# Altium footprint library SKALE_LIB.PcbLib: 52 footprints (part 2 of 4)
Each footprint in its own frame and in the unit in brackets; x right, y up, seen from the top. Pads: shape width x height; smd on the part's side, far side on the other; paste and mask are expansions set on the pad; w line width, h text height; cw(c..) or ccw(c..) is an arc to the next point about the centre after c.
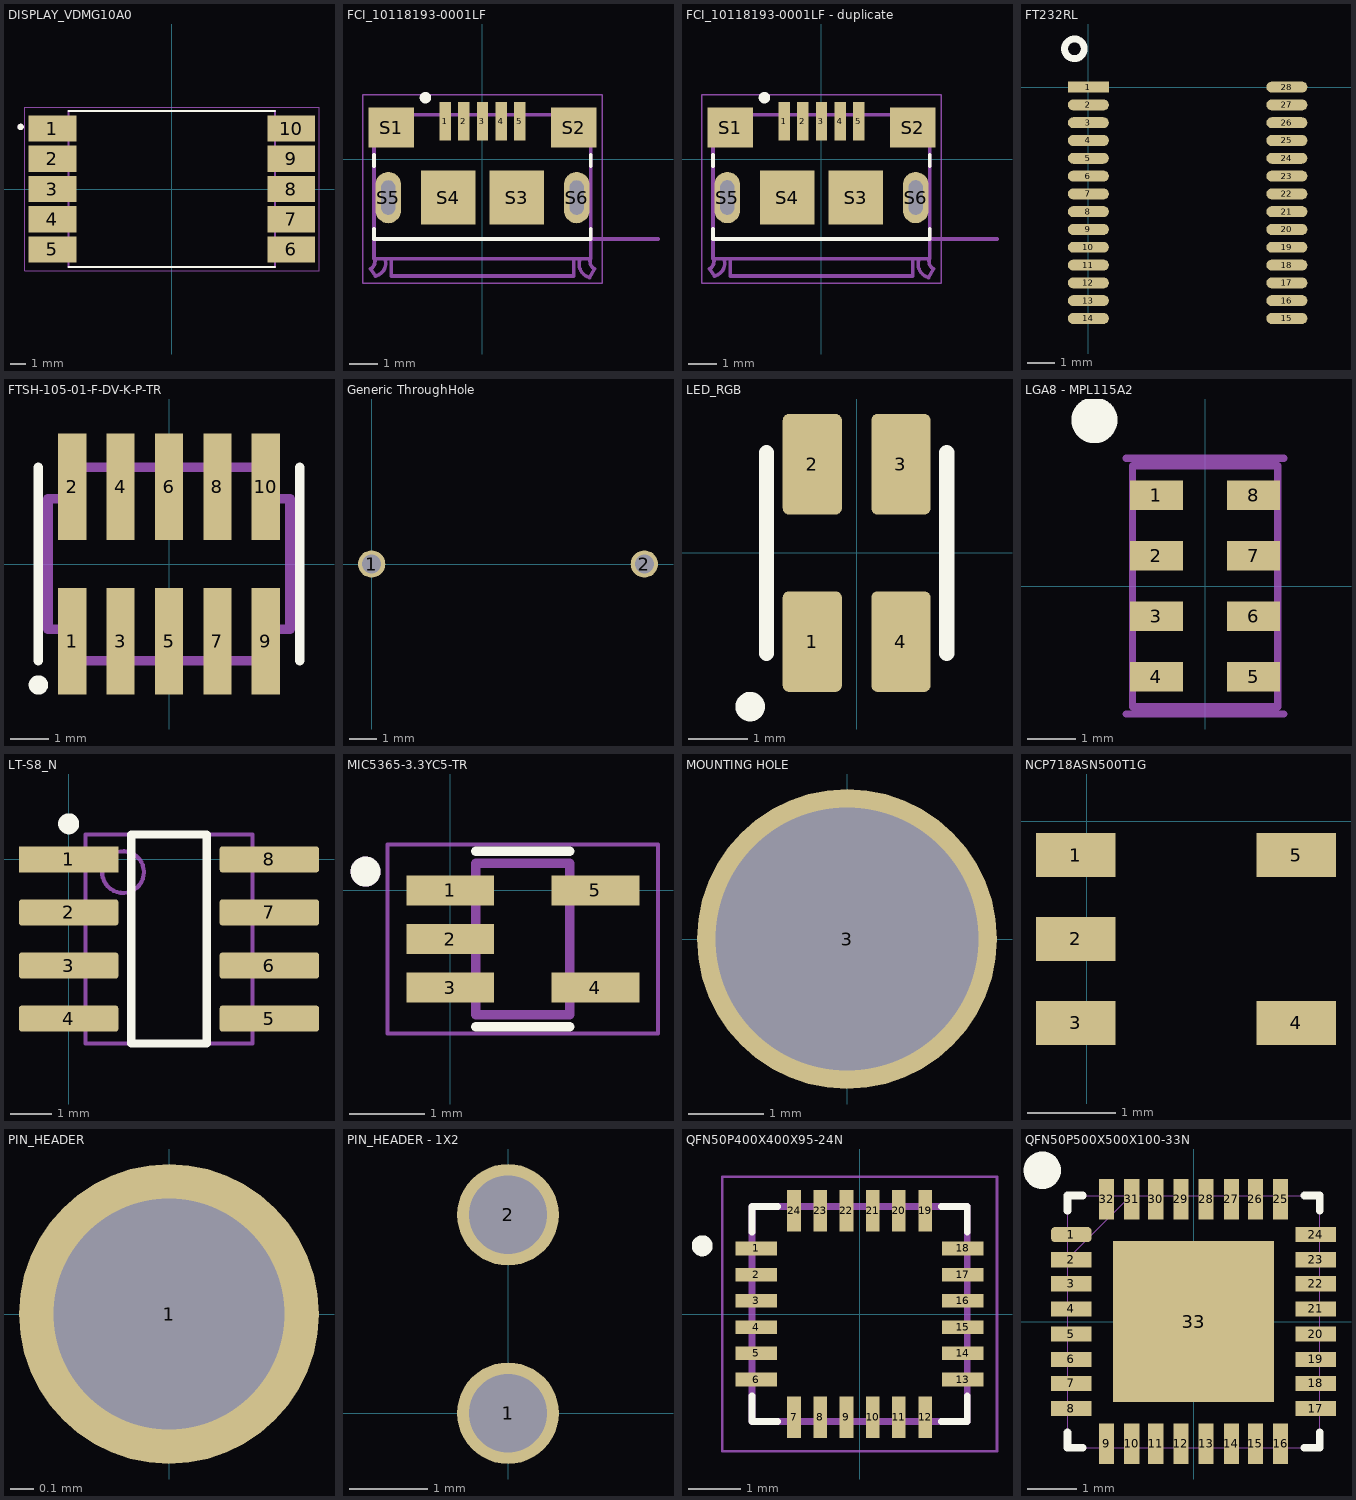
[diagram p1: the footprints below, top view; thin cyan lines are the x and y axes]

## DISPLAY_VDMG10A0 [mm]
pads (10):
  rect 3x1.65 smd: 1(-7.5,3.8) 2(-7.5,1.9) 3(-7.5,0) 4(-7.5,-1.9) 5(-7.5,-3.8) 6(7.5,-3.8) 7(7.5,-1.9) 8(7.5,0) 9(7.5,1.9) 10(7.5,3.8)
Top Overlay:
  circle w0.2: c-9.5,3.9 r0.1
  lines w0.127: -6.5,-4.9 6.5,-4.9 ; -6.5,4.9 6.5,4.9
Mechanical 13:
  circle w0.2: c-9.5,3.9 r0.1
  lines w0.127: -6.5,-4.9 -6.5,4.9 6.5,4.9 6.5,-4.9 -6.5,-4.9
Mechanical 15:
  lines w0.05: -9.25,-5.15 -9.25,5.15 9.25,5.15 9.25,-5.15 -9.25,-5.15
3D body "7segdisplay.stp": height 4, standoff 0, extent -7.627,-4.847 7.373,4.953

## FCI_10118193-0001LF [mm]
pads (11):
  rect 0.4x1.35 smd: 1(-1.3,1.338) 2(-0.65,1.338) 3(0,1.338) 4(0.65,1.338) 5(1.3,1.338)
  rect 1.6x1.4 smd: S1(-3.2,1.112) S2(3.2,1.112)
  rect 1.9x1.9 smd: S3(1.2,-1.338) S4(-1.2,-1.338)
  oval 0.9x1.8 hole 0.5 slot 1.2 at 90 deg: S5(-3.3,-1.338) S6(3.3,-1.338)
Top Overlay:
  circle w0.2: c-2,2.163 r0.1
  lines w0.127: -3.8,-2.788 3.8,-2.788 ; -3.8,-2.738 -3.8,-2.438 ; -3.8,-0.238 -3.8,0.162 ; 3.8,-2.738 3.8,-2.438 ; 3.8,-0.238 3.8,0.162
Mechanical 13:
  lines w0.127: -3.75,-4.088 -3.93,-3.838 ccw(c-4.065,-3.572) -3.8,-3.437 ; -3.746,-4.087 ccw(c-3.85,-3.638) -3.401,-3.534 ; -3.2,-3.538 -3.2,-4.088 3.2,-4.088 3.2,-3.538 ; 3.401,-3.535 ccw(c3.875,-3.662) 3.748,-4.137 ; 3.75,-4.137 3.93,-3.838 cw(c4.065,-3.572) 3.8,-3.437 ; 6.15,-2.788 3.8,-2.788 ; -3.8,-3.438 -3.8,1.562 3.8,1.562 3.8,-2.788 ; -3.8,-3.438 -3.8,-3.488 3.8,-3.488 3.8,-2.788
  text "PCB END" at 4.75,-2.638 h0.41
Mechanical 15:
  lines w0.05: -4.2,-4.337 -4.2,2.262 4.2,2.262 4.2,-4.337 -4.2,-4.337
3D body "10118193-0001LF--3DModel-STEP-56544.STEP": height 2.8, standoff -0.8, extent -3.937,-4.066 3.923,1.645

## FCI_10118193-0001LF - duplicate [mm]
pads (13):
  rect 0.4x1.35 smd: 1(-1.3,1.338) 2(-0.65,1.338) 3(0,1.338) 4(0.65,1.338) 5(1.3,1.338)
  rect 1.6x1.4 smd: S1(-3.2,1.112) S2(3.2,1.112)
  rect 1.9x1.9 smd: S3(1.2,-1.338) S4(-1.2,-1.338)
  oval 0.9x1.8 hole 0.5 slot 1.2 at 90 deg: S5(-3.3,-1.338) S6(3.3,-1.338)
  round 0.5 hole 0.5 unplated: ""(-3.3,-1.338) ""(3.3,-1.338)
Top Overlay:
  circle w0.2: c-2,2.163 r0.1
  lines w0.127: -3.8,-2.788 3.8,-2.788 ; -3.8,-2.738 -3.8,-2.438 ; -3.8,-0.238 -3.8,0.162 ; 3.8,-2.738 3.8,-2.438 ; 3.8,-0.238 3.8,0.162
Mechanical 13:
  lines w0.127: -3.75,-4.088 -3.93,-3.838 ccw(c-4.065,-3.572) -3.8,-3.437 ; -3.746,-4.087 ccw(c-3.85,-3.638) -3.401,-3.534 ; -3.2,-3.538 -3.2,-4.088 3.2,-4.088 3.2,-3.538 ; 3.401,-3.535 ccw(c3.875,-3.662) 3.748,-4.137 ; 3.75,-4.137 3.93,-3.838 cw(c4.065,-3.572) 3.8,-3.437 ; 6.15,-2.788 3.8,-2.788 ; -3.8,-3.438 -3.8,1.562 3.8,1.562 3.8,-2.788 ; -3.8,-3.438 -3.8,-3.488 3.8,-3.488 3.8,-2.788
  text "PCB END" at 4.75,-2.638 h0.41
Mechanical 15:
  lines w0.05: -4.2,-4.337 -4.2,2.262 4.2,2.262 4.2,-4.337 -4.2,-4.337
3D body "10118193-0001LF--3DModel-STEP-56544.STEP": height 2.8, standoff -0.8, extent -3.937,-4.066 3.923,1.645

## FT232RL [mm]
pads (28):
  rect 1.5x0.4 smd: 1(0,0)
  oval 1.5x0.4 smd: 2(0,-0.65) 3(0,-1.3) 4(0,-1.95) 5(0,-2.6) 6(0,-3.25) 7(0,-3.9) 8(0,-4.55) 9(0,-5.2) 10(0,-5.85) 11(0,-6.5) 12(0,-7.15) 13(0,-7.8) 14(0,-8.45) 15(7.25,-8.45) 16(7.25,-7.8) 17(7.25,-7.15) 18(7.25,-6.5) 19(7.25,-5.85) 20(7.25,-5.2) 21(7.25,-4.55) 22(7.25,-3.9) 23(7.25,-3.25) 24(7.25,-2.6) 25(7.25,-1.95) 26(7.25,-1.3) 27(7.25,-0.65) 28(7.25,0)
Top Overlay:
  circle w0.254: c-0.508,1.397 r0.359
3D body "FT232RL-REEL--3DModel-STEP-56544.STEP": height 2, standoff 0, extent -0.09,-9.311 7.71,0.889

## FTSH-105-01-F-DV-K-P-TR [mil] "Samtec programming header 10 positions"
pads (10):
  rect 29x110 smd mask+2: 1(-100,-80) 2(-100,80) 3(-50,-80) 4(-50,80) 5(0,-80) 6(0,80) 7(50,-80) 8(50,80) 9(100,-80) 10(100,80)
Top Overlay:
  circle w10: c-135,-125 r5
  lines w10: -135,-100 -135,100 ; 135,-100 135,100
Mechanical 1:
  lines w10: -125,-67.5 -100,-67.5 -100,-100 100,-100 100,-67.5 125,-67.5 125,67.5 100,67.5 100,100 -100,100 -100,67.5 -125,67.5 -125,-67.5
3D body "FTSH-105-01-F-DV-K-TR--3DModel-STEP-56544.STEP": height 240.75, standoff -0.25, extent -125,-115 125,115

## Generic ThroughHole [mm]
pads (2):
  round 1 hole 0.7: 1(0,0) 2(10,0)
3D body "Resistor TH horizontal 10,16.stp": height 2.51, standoff -2, extent -0.301,-1.172 10.207,1.143

## LED_RGB [mm]
pads (4):
  rrect20% 1x1.7 smd: 1(-0.75,-1.5) 2(-0.75,1.5) 3(0.75,1.5) 4(0.75,-1.5)
Top Overlay:
  circle w0.25: c-1.8,-2.6 r0.125
  lines w0.254: -1.525,-1.7 -1.525,1.7 ; 1.525,-1.7 1.525,1.7
3D body "User Library-PLCC4RGBCT-CA LED SMD RGB.step": height 1.89, standoff -0.01, extent -1.4,-1.75 1.4,1.75

## LGA8 - MPL115A2 [mil]
pads (8):
  rect 43x24 smd: 1(-39.5,73.82) 2(-39.5,24.61) 3(-39.5,-24.61) 4(-39.5,-73.82) 5(39.5,-73.82) 6(39.5,-24.61) 7(39.5,24.61) 8(39.5,73.82)
Top Overlay:
  circle w27.56: c-90,135 r5
Mechanical 13:
  lines w6: -64,-104 64,-104 ; -64,104 64,104 ; -59,-98 59,-98 59,98 -59,98 -59,-98
3D body "BMP280.STEP": height 39.37, standoff 0, extent -59.06,-23.11 59.06,95
3D body "BMP280.STEP": height 39.37, standoff 0, extent -59.06,-84.05 59.06,34.06

## LT-S8_N [mm] "SOP, 8-Leads, Body 4.9x3.9mm, Pitch 1.27mm, IPC Medium Density"
height 1.76
pads (8):
  rect 2.375x0.625 smd: 1(0,0)
  rrect20% 2.375x0.625 smd: 2(0,-1.27) 3(0,-2.54) 4(0,-3.81) 5(4.8,-3.81) 6(4.8,-2.54) 7(4.8,-1.27) 8(4.8,0)
Top Overlay:
  circle w0.25: c0,0.85 r0.125
  lines w0.2: 1.5,-4.405 1.5,0.595 3.3,0.595 3.3,-4.405 1.5,-4.405
Mechanical 13:
  circle w0.1: c1.3,-0.305 r0.5
  lines w0.1: 0.4,-4.405 0.4,0.595 4.4,0.595 4.4,-4.405 0.4,-4.405
3D body "SO-8.step": height 1.45, standoff 0, extent -0.511,-4.305 5.267,0.597

## MIC5365-3.3YC5-TR [mm]
pads (5):
  rect 1.17x0.4 smd: 1(0,0) 2(0,-0.65) 3(0,-1.3) 4(1.94,-1.3) 5(1.94,0)
Top Overlay:
  circle w0.2: c-1.13,0.25 r0.1
  lines w0.127: 0.345,-1.82 1.595,-1.82 ; 0.345,0.52 1.595,0.52
Mechanical 13:
  circle w0.2: c-1.13,0.25 r0.1
  lines w0.127: 0.345,-1.663 0.345,0.362 1.595,0.362 1.595,-1.663 0.345,-1.663
Mechanical 15:
  lines w0.05: -0.835,-1.913 -0.835,0.612 2.775,0.612 2.775,-1.913 -0.835,-1.913
3D body "SC-70_C5_MCH.step": height 1.09, standoff 0, extent -0.224,-1.755 2.164,0.455

## MOUNTING HOLE [mm]
pads (1):
  round 4 hole 3.5 unplated: 3(0,0)

## NCP718ASN500T1G [mm]
pads (5):
  rect 0.9x0.5 smd: 1(-0.127,-0.386) 2(-0.127,-1.336) 3(-0.127,-2.286) 4(2.373,-2.286) 5(2.373,-0.386)
3D body "TSOT23-5_ONS.step": height 0.99, standoff 0, extent -0.254,-2.845 2.54,0.051

## PIN_HEADER [mm]
pads (1):
  round 1.3 hole 1: 1(0,0)
3D body "PREC001SAAN-RC.STEP": height 8.38, standoff -3.05, extent -1.27,-1.292 1.27,1.248

## PIN_HEADER - 1X2 [mm]
pads (2):
  round 1.3 hole 1: 1(0,0) 2(0,2.54)
3D body "PREC001SAAN-RC.STEP": height 8.38, standoff -3.05, extent -1.27,1.248 1.27,3.788
3D body "PREC001SAAN-RC.STEP": height 8.38, standoff -3.05, extent -1.27,-1.292 1.27,1.248

## QFN50P400X400X95-24N [mm]
pads (24):
  rect 0.79x0.26 smd: 1(-1.97,1.25) 2(-1.97,0.75) 3(-1.97,0.25) 4(-1.97,-0.25) 5(-1.97,-0.75) 6(-1.97,-1.25) 13(1.97,-1.25) 14(1.97,-0.75) 15(1.97,-0.25) 16(1.97,0.25) 17(1.97,0.75) 18(1.97,1.25)
  rect 0.26x0.79 smd: 7(-1.25,-1.97) 8(-0.75,-1.97) 9(-0.25,-1.97) 10(0.25,-1.97) 11(0.75,-1.97) 12(1.25,-1.97) 19(1.25,1.97) 20(0.75,1.97) 21(0.25,1.97) 22(-0.25,1.97) 23(-0.75,1.97) 24(-1.25,1.97)
Top Overlay:
  circle w0.2: c-3,1.3 r0.1
  lines w0.127: -2.05,-1.56 -2.05,-2.05 -1.56,-2.05 ; -2.05,1.56 -2.05,2.05 -1.56,2.05 ; 1.56,-2.05 2.05,-2.05 2.05,-1.56 ; 1.56,2.05 2.05,2.05 2.05,1.56
Mechanical 13:
  lines w0.127: -2.05,-2.05 2.05,-2.05 2.05,2.05 -2.05,2.05 -2.05,-2.05
Mechanical 15:
  lines w0.05: -2.62,-2.62 2.62,-2.62 2.62,2.62 -2.62,2.62 -2.62,-2.62
3D body "MPU-6050--3DModel-STEP-1.STEP": height 0.93, standoff -0.02, extent -2,-2 2,2

## QFN50P500X500X100-33N [mil]
pads (33):
  rrect50% 32x12 smd: 1(-97,69)
  rect 32x12 smd: 2(-97,49) 3(-97,30) 4(-97,10) 5(-97,-10) 6(-97,-30) 7(-97,-49) 8(-97,-69) 17(97,-69) 18(97,-49) 19(97,-30) 20(97,-10) 21(97,10) 22(97,30) 23(97,49) 24(97,69)
  rect 12x32 smd: 9(-69,-97) 10(-49,-97) 11(-30,-97) 12(-10,-97) 13(10,-97) 14(30,-97) 15(49,-97) 16(69,-97) 25(69,97) 26(49,97) 27(30,97) 28(10,97) 29(-10,97) 30(-30,97) 31(-49,97) 32(-69,97)
  rect 128x128 smd: 33(0,0)
Top Overlay:
  circle w19.68: c-120,120 r5
  lines w6: -100,-88 -100,-100 -88,-100 ; -100,88 -100,100 -88,100 ; 88,-100 100,-100 100,-88 ; 88,100 100,100 100,88
Mechanical 13:
  lines w0: -100,-75 -100,-63 ; -100,-55 -100,-43 ; -100,-35 -100,-24 ; -100,-16 -100,-4 ; -100,4 -100,16 ; -100,24 -100,35 ; -100,43 -100,55 ; -100,50 -50,100 ; -100,63 -100,75 ; -75,-100 -63,-100 ; -75,100 -63,100 ; -55,-100 -43,-100 ; -55,100 -43,100 ; -35,-100 -24,-100 ; -35,100 -24,100 ; -16,-100 -4,-100 ; -16,100 -4,100 ; 4,-100 16,-100 ; 4,100 16,100 ; 24,-100 35,-100 ; 24,100 35,100 ; 43,-100 55,-100 ; 43,100 55,100 ; 63,-100 75,-100 ; 63,100 75,100 ; 100,-75 100,-63 ; 100,-55 100,-43 ; 100,-35 100,-24 ; 100,-16 100,-4 ; 100,4 100,16 ; 100,24 100,35 ; 100,43 100,55 ; 100,63 100,75 ; -100,-100 -100,100 100,100 100,-100 -100,-100
3D body "ATMEGA328P-MN.STEP": height 39.37, standoff 0, extent -98.42,-98.42 98.44,98.44